# Altium schematic symbol library Buttons.SchLib: 18 symbols
Pins are listed as number, name and electrical type; pins without a type are passive.

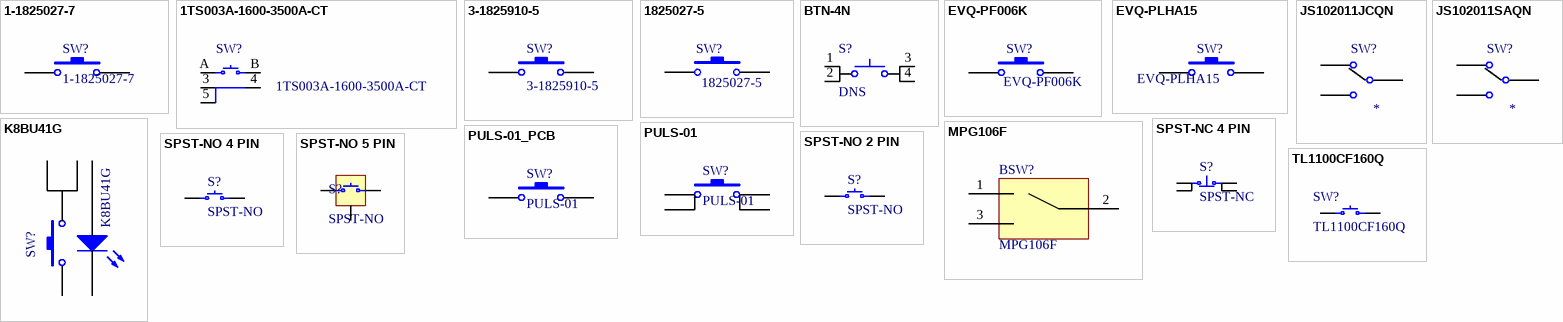
[diagram p0: symbols 1-1825027-7 to TL1100CF160Q]

## 1-1825027-7
designator SW?
SWITCH TACTILE SPST-NO 0.05A 24V; Manufacturer: TE Connectivity ALCOSWITCH Switches; Switch Function: Off-Mom; Contact Rating @ Voltage: 0.05A @ 24VDC; Actuator Type: Standard; Actuator Length, Right Angle: 6.85mm; Actuator Orientation: Side Actuated; Outline: 7.10mm x 7.00mm; Illumination: Non-Illuminated; Operating Force: 160gf; Actuator Material: Polyamide (PA), Nylon; Switch Travel: 0.25mm; Mechanical Life: 100,000 Cycles; Supplier 1: Digi-Key; Manufacturer Part Number: 1-1825027-7; RoHS: RoHS Compliant; Category: Switches; Stock 1: 14815; Pricing 1: 1=0.2, 10=0.194, 25=0.1876, 50=0.1808, 100=0.1708, 250=0.16072, 500=0.15402, 1000=0.11719, 5000=0.0971 (USD); Packaging: Bulk; Part Status: Active; Circuit: SPST-NO; Mounting Type: Through Hole, Right Angle; Actuator Height off PCB, Vertical: -; Termination Style: PC Pin; Illumination Type, Color: -; Illumination Voltage (Nominal): -; Ingress Protection: -; Features: -; Operating Temperature: -35°C ~ 85°C; ComponentLink1URL: http://www.te.com/commerce/DocumentDelivery/DDEController?Action=srchrtrv&DocNm=1825027&DocType=Customer+Drawing&DocLang=English; ComponentLink1Description: http://www.te.com/commerce/DocumentDelivery/DDEController?Action=srchrtrv&DocNm=1825027&DocType=Customer+Drawing&DocLang=English; Supplier Part Number 1: 450-1660-ND; Value: 1-1825027-7
footprint 1-1825027-7
pins: 1, 2

## 1TS003A-1600-3500A-CT
designator SW?
SPST-NO 50MA @ 12VDC SIDE ACTUATED RECTANGULAR BUTTON 2X4X3.5MM; Manufacturer: HYP (Hongyuan Precision); Switch Function: Off-Mom; Contact Rating @ Voltage: 0.05A @ 12VDC; Actuator Type: Plunger for Cap; Operating Force: 160gf; Switch Travel: 0.30mm; Mechanical Life: 100,000 Cycles; Manufacturer Part Number: 1TS003A-1600-3500A-CT; RoHS: RoHS Compliant; Category: Switches; Stock 1: 10088; Pricing 1: 1=0.45, 10=0.429, 25=0.4212, 50=0.4054, 100=0.3498, 250=0.318, 500=0.3021, 1000=0.2385, 5000=0.2226 (USD); Packaging: Bulk; Part Status: Active; Circuit: SPST-NO; Mounting Type: SMD; Actuator Height off PCB, Vertical: -; Actuator Orientation: Side Actuated; Termination Style: PC Pin; Outline: 2x4x3.5mm; Features: Tactile Feedback; Operating Temperature: -20°C ~ 70°C; ComponentLink1URL: http://spec_sheets.e-switch.com/specs/P001110.pdf; ComponentLink1Description: http://spec_sheets.e-switch.com/specs/P001110.pdf; Value: 1TS003A-1600-3500A-CT; Supplier Part Number 1: C255805
footprint 1TS003A-XXXX-3500A-CT
pins: 3, 4, 5, A, B

## 3-1825910-5
designator SW?
SWITCH TACTILE SPST-NO 0.05A 24V; Manufacturer: TE Connectivity ALCOSWITCH Switches; Switch Function: Off-Mom; Contact Rating @ Voltage: 0.05A @ 24VDC; Actuator Type: Standard; Actuator Height off PCB, Vertical: 8.50mm; Actuator Orientation: Top Actuated; Outline: 6.00mm x 6.00mm; Illumination: Non-Illuminated; Operating Force: 160gf; Actuator Material: Polyamide (PA66), Nylon 6/6; Switch Travel: 0.25mm; Mechanical Life: 100,000 Cycles; Supplier 1: Digi-Key; Manufacturer Part Number: 3-1825910-5; RoHS: RoHS Compliant; Category: Switches; Stock 1: 28985; Pricing 1: 1=0.11, 10=0.11, 25=0.1064, 50=0.1026, 100=0.0969, 250=0.09124, 500=0.08744, 1000=0.06653, 5000=0.05512 (USD); Packaging: Bulk; Part Status: Active; Circuit: SPST-NO; Mounting Type: Through Hole; Actuator Length, Right Angle: -; Termination Style: PC Pin; Illumination Type, Color: -; Illumination Voltage (Nominal): -; Ingress Protection: -; Features: -; Operating Temperature: -35°C ~ 85°C; ComponentLink1URL: http://www.te.com/commerce/DocumentDelivery/DDEController?Action=srchrtrv&DocNm=1825910&DocType=Customer+Drawing&DocLang=English; ComponentLink1Description: http://www.te.com/commerce/DocumentDelivery/DDEController?Action=srchrtrv&DocNm=1825910&DocType=Customer+Drawing&DocLang=English; Supplier Part Number 1: 450-1644-ND; Value: 3-1825910-5
footprint c-3-1825910-5-c-ONPCB
pins: 1, 2

## 1825027-5
designator SW?
Tactile Switch SPST-NO Side Actuated Through Hole, Right Angle; Switch Function: Off-Mom; Contact Rating @ Voltage: 0.05A @ 24VDC; Actuator Type: Standard; Actuator Height off PCB, from Pins: 3.86mm; Outline: 7.10mm x 7.00mm; Illumination: Non-Illuminated; Operating Force: 160gf; Actuator Material: Polybutylene Terephthalate (PBT); Switch Travel: 0.25mm; Mechanical Life: 100,000 Cycles; Packaging: Bulk; Circuit: SPST-NO; Mounting Type: Through Hole, Right Angle; Actuator Orientation: Side Actuated; Termination Style: PC Pin; Illumination Voltage (Nominal): -; Illumination Type, Color: -; Ingress Protection: -; Features: -; Operating Temperature: -35°C ~ 85°C; ComponentLink1URL: http://www.te.com/commerce/DocumentDelivery/DDEController?Action=srchrtrv&DocNm=1825027&DocType=Customer+Drawing&DocLang=English; ComponentLink1Description: http://www.te.com/commerce/DocumentDelivery/DDEController?Action=srchrtrv&DocNm=1825027&DocType=Customer+Drawing&DocLang=English; Supplier 1: Digi-Key; Supplier Part Number 1: 450-1662-ND; Value: 1825027-5
footprint 1825027-5
pins: 1, 2

## BTN-4N
designator S?, comment BOMOPTION: DNS  (hidden comment: Push Button)
SPST- NO Momentary Button, 160g Force; Part Number: BTN00002; Manufacturer: Panasonic; Manufacturer Part Number: EVQ-P2202M; Value: EVQ-P2202M; Supplier 1: Digi-Key; Supplier Part Number 1: P12298SCT-ND; Supplier Price 1: 0.45619; ComponentLink1URL: http://industrial.panasonic.com/www-data/pdf/ATK0000/ATK0000CE6.pdf
footprint EVQP0
footprint EVQ-PLDA15
footprint BTN470X350X210-4N
pins: 1, 2, 3, 4

## EVQ-PF006K
designator SW?
SWITCH TACTILE SPST-NO 0.02A 15V; Manufacturer: Panasonic Electronic Components; Switch Function: Off-Mom; Contact Rating @ Voltage: 0.02A @ 15VDC; Actuator Type: Standard; Actuator Length, Right Angle: 5.85mm; Actuator Orientation: Side Actuated; Outline: 7.50mm x 7.10mm; Illumination: Non-Illuminated; Operating Force: 100gf; Switch Travel: 0.25mm; Mechanical Life: 100,000 Cycles; Supplier 1: Digi-Key; Manufacturer Part Number: EVQ-PF006K; RoHS: RoHS Compliant; Category: Switches; Stock 1: 16336; Pricing 1: 1=0.22, 10=0.212, 25=0.2044, 50=0.1972, 100=0.1862, 250=0.1752, 500=0.1679, 1000=0.12775, 5000=0.10585 (USD); Packaging: Bulk; Part Status: Active; Circuit: SPST-NO; Mounting Type: Through Hole, Right Angle; Actuator Height off PCB, Vertical: -; Termination Style: PC Pin; Illumination Type, Color: -; Illumination Voltage (Nominal): -; Ingress Protection: -; Features: -; Actuator Material: -; Operating Temperature: -20°C ~ 70°C; ComponentLink1URL: http://industrial.panasonic.com/www-data/pdf/ATK0000/ATK0000CE32.pdf; ComponentLink1Description: http://industrial.panasonic.com/www-data/pdf/ATK0000/ATK0000CE32.pdf; Supplier Part Number 1: P10879S-ND; Value: EVQ-PF006K
footprint EVQ-PF006K
pins: 1, 2

## EVQ-PLHA15
designator SW?
SWITCH TACTILE SPST-NO 0.02A 15V; Manufacturer: Panasonic Electronic Components; Switch Function: Off-Mom; Contact Rating @ Voltage: 0.02A @ 15VDC; Actuator Type: Standard; Actuator Height off PCB, Vertical: 1.50mm; Actuator Orientation: Top Actuated; Outline: 4.90mm x 4.90mm; Illumination: Non-Illuminated; Operating Force: 160gf; Switch Travel: 0.25mm; Mechanical Life: 500,000 Cycles; Supplier 1: Digi-Key; Manufacturer Part Number: EVQ-PLHA15; RoHS: RoHS Compliant; Category: Switches; Stock 1: 56384; Pricing 1: 1=0.52, 10=0.505, 25=0.4956, 50=0.4768, 100=0.4114, 250=0.374, 500=0.3553, 1000=0.2805 (USD); Packaging: Cut Tape (CT); Part Status: Active; Circuit: SPST-NO; Mounting Type: Surface Mount; Actuator Length, Right Angle: -; Termination Style: J Lead; Illumination Type, Color: -; Illumination Voltage (Nominal): -; Ingress Protection: -; Features: Push Plate; Actuator Material: -; Operating Temperature: -20°C ~ 70°C; ComponentLink1URL: http://industrial.panasonic.com/cdbs/www-data/pdf/ATK0000/ATK0000CE3.pdf; ComponentLink1Description: http://industrial.panasonic.com/cdbs/www-data/pdf/ATK0000/ATK0000CE3.pdf; Supplier Part Number 1: P8046SCT-ND
footprint EVQ-PLHA15
pins: 1, 2

## JS102011JCQN
designator SW?
footprint JS102011JCQN
pins: 1, 2 1, 3

## JS102011SAQN
designator SW?
SWITCH SLIDE SPDT 300MA 6V
footprint JS102011SAQN
pins: 1, 2 1, 3

## K8BU41G
designator K8BU41G, comment SW?
Illuminated Tactile Switches Lighted SMT Tact Blue, 4N, Gold; Manufacturer: ITT C&K; Manufacturer Part Number: K8BU41G; Mechanical Life: 300000Cycles; Operating Force: 400gf; Current Rating: 50mA; Voltage Rating (DC): 32V; Illumination Type: LED,Illuminated; Throw Configuration: SPST; Switch Travel: 0.45mm; Switch Function: Off-Mom; IP Rating: IP40; Supplier 1: Digi-Key; Supplier Part Number 1: CKN10529DKR-ND; Stock 1: 3967; Pricing 1: 1=4.37, 10=4.205, 25=3.8684, 50=3.3638, 100=3.1957, 250=3.1116 (USD); Mount: Surface Mount; Case/Package: SMD/SMT; Colour: Black; Contact Plating: Silver; Min Operating Temperature: -40°C; Max Operating Temperature: 85°C; Illumination Colour: Blue; Packaging: Tape and Reel; Package Quantity: 900; Termination: Gull Wing; ComponentLink1URL: https://datasheet.ciiva.com/18514/k8-18514118.pdf; ComponentLink1Description: https://datasheet.ciiva.com/18514/k8-18514118.pdf; ComponentLink2URL: https://datasheet.ciiva.com/18514/k8-18514119.pdf; ComponentLink2Description: https://datasheet.ciiva.com/18514/k8-18514119.pdf; ComponentLink3URL: https://datasheet.ciiva.com/18514/k8-18514120.pdf; ComponentLink3Description: https://datasheet.ciiva.com/18514/k8-18514120.pdf
footprint K8BU41G (SWITCH TACTILE SPST-NO 0.05A 32V)
footprint K8BU41G - BOTTOM SOLDER
pins: 1, 2, 3, 4, 5

## MPG106F
designator BSW?
SWITCH PUSHBUTTON SPDT 6A 125V; Manufacturer 1: TE Connectivity; Actuator Material: Resin; Illumination Type: Illuminated; Max Voltage Rating (AC): 250V; Contact Resistance: 10mR; Number of Poles: 1; Electrical Life: 50000Cycles; Number of Positions: 2; Switch Function: On-Mom; Insulation Resistance: 1GR; Actuator Type: Round, Button; Voltage Rating (DC): 28V; Actuator Length: 0.315inch; Approvals: UL,CSA; Supplier 1: Digi-Key; Manufacturer Part Number 1: MPG106F; RoHS: Yes; Category: Pushbutton Switches; Stock 1: 471; Pricing 1: 1=14,53000, 10=13,76700, 25=13,57600, 50=12,62020, 100=12,42890, 250=11,09040, 500=10,70798 (USD); Mount: Panel; Contact Material: Copper,Silver; Contact Plating: Gold,Silver; Housing Material: Thermoset; Min Operating Temperature: -20°C; Max Operating Temperature: 80°C; Packaging: Bulk; Package Quantity: 25; Current Rating: 6A; Throw Configuration: SPDT; Contact Current Rating: 6A; Termination: Lug; Orientation: Straight; Type: Switch; Voltage Rating (AC): 250V; Lead Free: Lead Free; ELV: Compliant; REACH SVHC: Unknown; ComponentLink1URL: https://datasheet.ciiva.com/30466/0900766b812265d1-30466982.pdf?src-supplier=RSComponents; ComponentLink1Description: https://datasheet.ciiva.com/30466/0900766b812265d1-30466982.pdf?src-supplier=RSComponents; ComponentLink2URL: https://datasheet.ciiva.com/2869/eng-cd-4-1437567-9-c3-4-1437567-9-3-c-dwg-2869509.pdf?src-supplier=Digi-Key; ComponentLink2Description: https://datasheet.ciiva.com/2869/eng-cd-4-1437567-9-c3-4-1437567-9-3-c-dwg-2869509.pdf?src-supplier=Digi-Key; ComponentLink3URL: https://datasheet.ciiva.com/24447/1308390-sec-d1-pushbutton-switches-24447973.pdf?src-supplier=Onlinecomponents.com; ComponentLink3Description: https://datasheet.ciiva.com/24447/1308390-sec-d1-pushbutton-switches-24447973.pdf?src-supplier=Onlinecomponents.com; ComponentLink4URL: https://datasheet.ciiva.com/30062/1308390-sec-d1-pushbutton-switches-30062814.pdf?src-supplier=Onlinecomponents.com; ComponentLink4Description: https://datasheet.ciiva.com/30062/1308390-sec-d1-pushbutton-switches-30062814.pdf?src-supplier=Onlinecomponents.com; ComponentLink5URL: https://datasheet.ciiva.com/7633/1650977-7633295.pdf?src-supplier=Element14; ComponentLink5Description: https://datasheet.ciiva.com/7633/1650977-7633295.pdf?src-supplier=Element14; Value: MPG106F; Supplier Part Number 1: 450-1086-ND
footprint MPG106F
pins: 1, 2, 3

## PULS-01
designator SW?
SWITCH TACTILE SPST-NO 0.05A 24V; Manufacturer: Didacticas I+D; Switch Function: Off-Mom; Actuator Type: Standard; Actuator Length, Right Angle: 6.85mm; Actuator Orientation: Side Actuated; Outline: 12x12mm; Illumination: Non-Illuminated; Operating Force: 160gf; Actuator Material: Polyamide (PA), Nylon; Switch Travel: 0.25mm; Mechanical Life: 100,000 Cycles; Manufacturer Part Number: PULS-01; RoHS: RoHS Compliant; Category: Switches; Packaging: Bulk; Part Status: Active; Circuit: SPST-NO; Mounting Type: Through Hole; Actuator Height off PCB, Vertical: -; Termination Style: PC Pin; Illumination Type, Color: -; Illumination Voltage (Nominal): -; Ingress Protection: -; Features: -; Operating Temperature: -35°C ~ 85°C; Value: PULS-01; Supplier 1: Didacticas I+D; Supplier Part Number 1: PULS-01
footprint PULS-01
pins: 1, 2, 3, 4

## PULS-01_PCB
designator SW?, comment PULS-01
SWITCH TACTILE SPST-NO 0.05A 24V; Manufacturer: Didacticas I+D; Switch Function: Off-Mom; Actuator Type: Standard; Actuator Length, Right Angle: 6.85mm; Actuator Orientation: Side Actuated; Outline: 12x12mm; Illumination: Non-Illuminated; Operating Force: 160gf; Actuator Material: Polyamide (PA), Nylon; Switch Travel: 0.25mm; Mechanical Life: 100,000 Cycles; Manufacturer Part Number: PULS-01; RoHS: RoHS Compliant; Category: Switches; Packaging: Bulk; Part Status: Active; Circuit: SPST-NO; Mounting Type: Through Hole; Actuator Height off PCB, Vertical: -; Termination Style: PC Pin; Illumination Type, Color: -; Illumination Voltage (Nominal): -; Ingress Protection: -; Features: -; Operating Temperature: -35°C ~ 85°C; Value: PULS-01; Supplier 1: Didacticas I+D; Supplier Part Number 1: PULS-01
footprint PULS-01-PCB
pins: SW1 1, SW2 2

## SPST-NC 4 PIN
designator S?, comment SPST-NC
Populated: Yes; Value: *; ClassName: *; ROHS: Yes; Manuf1: *; Manuf1Partnumber: *; HelpURL: *; PackageReference: *; LifeCycle: Checked; Code_JEDEC: *
footprint TE FSM6JSMA
pins: 1, 2, 3, 4

## SPST-NO 2 PIN
designator S?, comment SPST-NO
Populated: Yes; LifeCycle: Checked; ROHS: Yes
footprint TE FSMSMTR
pins: 1, 2

## SPST-NO 4 PIN
designator S?, comment SPST-NO
Populated: Yes; LifeCycle: Checked; ROHS: Yes
footprint TE FSM4JSMA
footprint SW4SMD_63X161LS
footprint B3F-XX
pins: 1, 2, 3, 4

## SPST-NO 5 PIN
designator S?, comment SPST-NO
Populated: Yes; LifeCycle: Checked; ROHS: Yes
footprint TE FSM1LPATR
pins: 1, 2, 3,4, 5 GND

## TL1100CF160Q
designator SW?
SWITCH TACTILE SPST-NO 0.05A 12V; Manufacturer: E-Switch; Switch Function: Off-Mom; Contact Rating @ Voltage: 0.05A @ 12VDC; Actuator Type: Plunger for Cap; Actuator Length, Right Angle: 6.45mm; Actuator Orientation: Side Actuated; Outline: 12.00mm x 12.00mm; Illumination: Non-Illuminated; Operating Force: 160gf; Actuator Material: Polyester; Switch Travel: 0.30mm; Mechanical Life: 100,000 Cycles; Supplier 1: Digi-Key; Manufacturer Part Number: TL1100CF160Q; RoHS: RoHS Compliant; Category: Switches; Stock 1: 10088; Pricing 1: 1=0.45, 10=0.429, 25=0.4212, 50=0.4054, 100=0.3498, 250=0.318, 500=0.3021, 1000=0.2385, 5000=0.2226 (USD); Packaging: Bulk; Part Status: Active; Circuit: SPST-NO; Mounting Type: Through Hole, Right Angle; Actuator Height off PCB, Vertical: -; Termination Style: PC Pin; Illumination Type, Color: -; Illumination Voltage (Nominal): -; Ingress Protection: -; Features: Tactile Feedback; Operating Temperature: -20°C ~ 70°C; ComponentLink1URL: http://spec_sheets.e-switch.com/specs/P001110.pdf; ComponentLink1Description: http://spec_sheets.e-switch.com/specs/P001110.pdf; Value: TL1100CF160Q; Supplier Part Number 1: EG1822-ND
footprint TL1100CF160Q
pins: 1, 2